# Altium footprint library IS62C.PcbLib: 2 footprints
Each footprint in its own frame and in the unit in brackets; x right, y up, seen from the top. Pads: shape width x height; smd on the part's side, far side on the other; paste and mask are expansions set on the pad; w line width, h text height; cw(c..) or ccw(c..) is an arc to the next point about the centre after c.
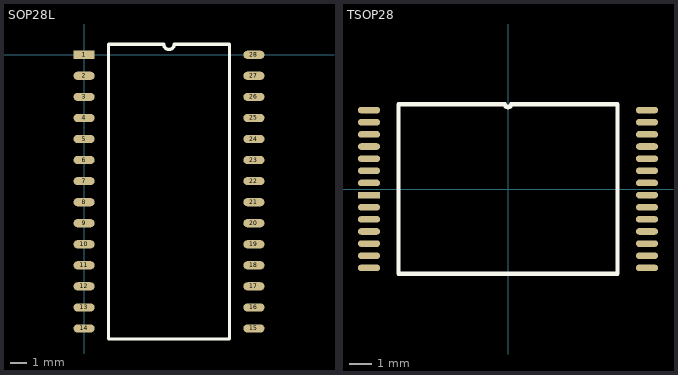
[diagram p0: the footprints below, top view; thin cyan lines are the x and y axes]

## SOP28L [mm]
pads (28):
  rect 1.27x0.5 smd: 1(0,0)
  oval 1.27x0.5 smd: 2(0,-1.27) 3(0,-2.54) 4(0,-3.81) 5(0,-5.08) 6(0,-6.35) 7(0,-7.62) 8(0,-8.89) 9(0,-10.16) 10(0,-11.43) 11(0,-12.7) 12(0,-13.97) 13(0,-15.24) 14(0,-16.51) 15(10.25,-16.51) 16(10.25,-15.24) 17(10.25,-13.97) 18(10.25,-12.7) 19(10.25,-11.43) 20(10.25,-10.16) 21(10.25,-8.89) 22(10.25,-7.62) 23(10.25,-6.35) 24(10.25,-5.08) 25(10.25,-3.81) 26(10.25,-2.54) 27(10.25,-1.27) 28(10.25,0)
Top Overlay:
  lines w0.2: 1.47,-17.145 1.47,0.635 4.807,0.635 ccw(c5.125,0.635) 5.442,0.635 8.78,0.635 8.78,-17.145 1.47,-17.145
3D body: height 2.5, standoff 0, extent 1.469,-17.146 8.781,0.636

## TSOP28 [mm]
pads (28):
  rect 1x0.3 smd: 1(-6.3,-0.275)
  oval 1x0.3 smd: 2(-6.3,-0.825) 3(-6.3,-1.375) 4(-6.3,-1.925) 5(-6.3,-2.475) 6(-6.3,-3.025) 7(-6.3,-3.575) 8(6.3,-3.575) 9(6.3,-3.025) 10(6.3,-2.475) 11(6.3,-1.925) 12(6.3,-1.375) 13(6.3,-0.825) 14(6.3,-0.275) 15(6.3,0.275) 16(6.3,0.825) 17(6.3,1.375) 18(6.3,1.925) 19(6.3,2.475) 20(6.3,3.025) 21(6.3,3.575) 22(-6.3,3.575) 23(-6.3,3.025) 24(-6.3,2.475) 25(-6.3,1.925) 26(-6.3,1.375) 27(-6.3,0.825) 28(-6.3,0.275)
Top Overlay:
  lines w0.2: -4.965,-3.85 -4.965,3.85 -0.137,3.85 ccw(c0,3.85) 0.137,3.85 4.965,3.85 4.965,-3.85 -4.965,-3.85
3D body: height 1, standoff 0.8, extent -5.749,-3.656 5.75,3.656
3D body: height 0.8, standoff 0.2, extent -6,-4 6,4